# EAGLE library part IC_UC_PIC24FJ256GB110 (library dp_devices)
16-bit Flash Microcontroller with USB OTG
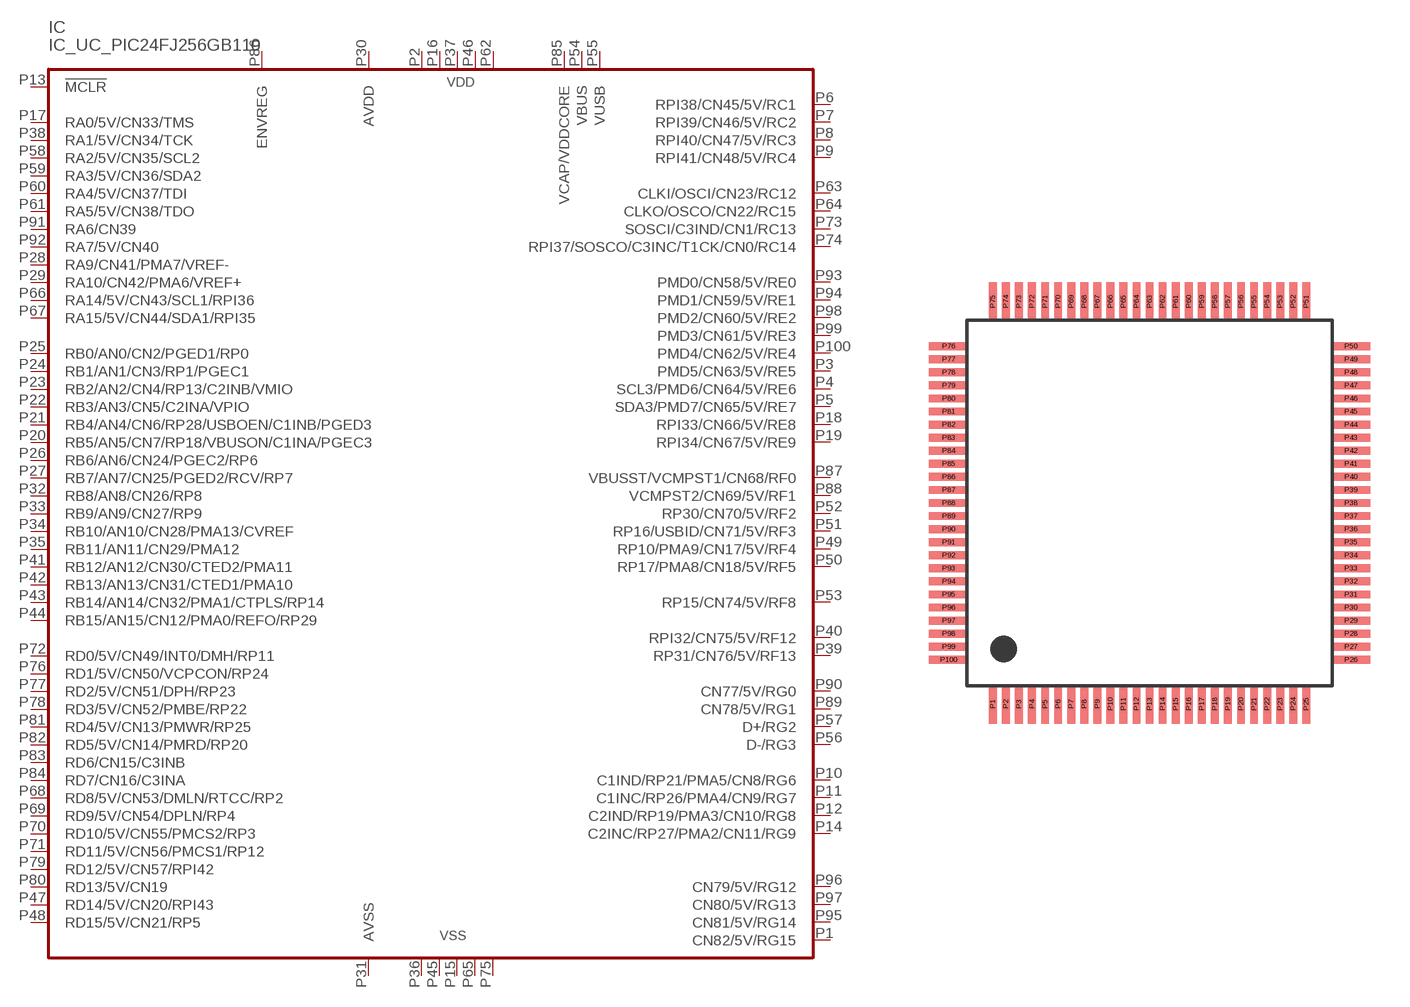
[diagram p76: symbol with the pads of TQFP-100; footprint TQFP-100]

Designator prefix IC

## IC_UC_PIC24FJ256GB110-TQFP100  [TQFP-100]
P1  CN82/5V/RG15
P2  VDD  pwr
P3  PMD5/CN63/5V/RE5
P4  SCL3/PMD6/CN64/5V/RE6
P5  SDA3/PMD7/CN65/5V/RE7
P6  RPI38/CN45/5V/RC1
P7  RPI39/CN46/5V/RC2
P8  RPI40/CN47/5V/RC3
P9  RPI41/CN48/5V/RC4
P10  C1IND/RP21/PMA5/CN8/RG6
P11  C1INC/RP26/PMA4/CN9/RG7
P12  C2IND/RP19/PMA3/CN10/RG8
P13  !MCLR  in
P14  C2INC/RP27/PMA2/CN11/RG9
P15  VSS  pwr
P16  VDD  pwr
P17  RA0/5V/CN33/TMS
P18  RPI33/CN66/5V/RE8
P19  RPI34/CN67/5V/RE9
P20  RB5/AN5/CN7/RP18/VBUSON/C1INA/PGEC3
P21  RB4/AN4/CN6/RP28/USBOEN/C1INB/PGED3
P22  RB3/AN3/CN5/C2INA/VPIO
P23  RB2/AN2/CN4/RP13/C2INB/VMIO
P24  RB1/AN1/CN3/RP1/PGEC1
P25  RB0/AN0/CN2/PGED1/RP0
P26  RB6/AN6/CN24/PGEC2/RP6
P27  RB7/AN7/CN25/PGED2/RCV/RP7
P28  RA9/CN41/PMA7/VREF-
P29  RA10/CN42/PMA6/VREF+
P30  AVDD  pwr
P31  AVSS  pwr
P32  RB8/AN8/CN26/RP8
P33  RB9/AN9/CN27/RP9
P34  RB10/AN10/CN28/PMA13/CVREF
P35  RB11/AN11/CN29/PMA12
P36  VSS  pwr
P37  VDD  pwr
P38  RA1/5V/CN34/TCK
P39  RP31/CN76/5V/RF13
P40  RPI32/CN75/5V/RF12
P41  RB12/AN12/CN30/CTED2/PMA11
P42  RB13/AN13/CN31/CTED1/PMA10
P43  RB14/AN14/CN32/PMA1/CTPLS/RP14
P44  RB15/AN15/CN12/PMA0/REFO/RP29
P45  VSS  pwr
P46  VDD  pwr
P47  RD14/5V/CN20/RPI43
P48  RD15/5V/CN21/RP5
P49  RP10/PMA9/CN17/5V/RF4
P50  RP17/PMA8/CN18/5V/RF5
P51  RP16/USBID/CN71/5V/RF3
P52  RP30/CN70/5V/RF2
P53  RP15/CN74/5V/RF8
P54  VBUS  pwr
P55  VUSB  pwr
P56  D-/RG3
P57  D+/RG2
P58  RA2/5V/CN35/SCL2
P59  RA3/5V/CN36/SDA2
P60  RA4/5V/CN37/TDI
P61  RA5/5V/CN38/TDO
P62  VDD  pwr
P63  CLKI/OSCI/CN23/RC12
P64  CLKO/OSCO/CN22/RC15
P65  VSS  pwr
P66  RA14/5V/CN43/SCL1/RPI36
P67  RA15/5V/CN44/SDA1/RPI35
P68  RD8/5V/CN53/DMLN/RTCC/RP2
P69  RD9/5V/CN54/DPLN/RP4
P70  RD10/5V/CN55/PMCS2/RP3
P71  RD11/5V/CN56/PMCS1/RP12
P72  RD0/5V/CN49/INT0/DMH/RP11
P73  SOSCI/C3IND/CN1/RC13
P74  RPI37/SOSCO/C3INC/T1CK/CN0/RC14
P75  VSS  pwr
P76  RD1/5V/CN50/VCPCON/RP24
P77  RD2/5V/CN51/DPH/RP23
P78  RD3/5V/CN52/PMBE/RP22
P79  RD12/5V/CN57/RPI42
P80  RD13/5V/CN19
P81  RD4/5V/CN13/PMWR/RP25
P82  RD5/5V/CN14/PMRD/RP20
P83  RD6/CN15/C3INB
P84  RD7/CN16/C3INA
P85  VCAP/VDDCORE  pwr
P86  ENVREG  in
P87  VBUSST/VCMPST1/CN68/RF0
P88  VCMPST2/CN69/5V/RF1
P89  CN78/5V/RG1
P90  CN77/5V/RG0
P91  RA6/CN39
P92  RA7/5V/CN40
P93  PMD0/CN58/5V/RE0
P94  PMD1/CN59/5V/RE1
P95  CN81/5V/RG14
P96  CN79/5V/RG12
P97  CN80/5V/RG13
P98  PMD2/CN60/5V/RE2
P99  PMD3/CN61/5V/RE3
P100  PMD4/CN62/5V/RE4

## Footprint TQFP-100 (pad centres in mm)
100-Lead Plastic Thin Quad Flatpack
smd 0.3 x 1.5: P1 -6,-7.7; P2 -5.5,-7.7; P3 -5,-7.7; P4 -4.5,-7.7; P5 -4,-7.7; P6 -3.5,-7.7; P7 -3,-7.7; P8 -2.5,-7.7; P9 -2,-7.7; P10 -1.5,-7.7; P11 -1,-7.7; P12 -0.5,-7.7; P13 0,-7.7; P14 0.5,-7.7; P15 1,-7.7; P16 1.5,-7.7; P17 2,-7.7; P18 2.5,-7.7; P19 3,-7.7; P20 3.5,-7.7; P21 4,-7.7; P22 4.5,-7.7; P23 5,-7.7; P24 5.5,-7.7; P25 6,-7.7; P51 6,7.7; P52 5.5,7.7; P53 5,7.7; P54 4.5,7.7; P55 4,7.7; P56 3.5,7.7; P57 3,7.7; P58 2.5,7.7; P59 2,7.7; P60 1.5,7.7; P61 1,7.7; P62 0.5,7.7; P63 0,7.7; P64 -0.5,7.7; P65 -1,7.7; P66 -1.5,7.7; P67 -2,7.7; P68 -2.5,7.7; P69 -3,7.7; P70 -3.5,7.7; P71 -4,7.7; P72 -4.5,7.7; P73 -5,7.7; P74 -5.5,7.7; P75 -6,7.7
smd 1.5 x 0.3: P26 7.7,-6; P27 7.7,-5.5; P28 7.7,-5; P29 7.7,-4.5; P30 7.7,-4; P31 7.7,-3.5; P32 7.7,-3; P33 7.7,-2.5; P34 7.7,-2; P35 7.7,-1.5; P36 7.7,-1; P37 7.7,-0.5; P38 7.7,0; P39 7.7,0.5; P40 7.7,1; P41 7.7,1.5; P42 7.7,2; P43 7.7,2.5; P44 7.7,3; P45 7.7,3.5; P46 7.7,4; P47 7.7,4.5; P48 7.7,5; P49 7.7,5.5; P50 7.7,6; P76 -7.7,6; P77 -7.7,5.5; P78 -7.7,5; P79 -7.7,4.5; P80 -7.7,4; P81 -7.7,3.5; P82 -7.7,3; P83 -7.7,2.5; P84 -7.7,2; P85 -7.7,1.5; P86 -7.7,1; P87 -7.7,0.5; P88 -7.7,0; P89 -7.7,-0.5; P90 -7.7,-1; P91 -7.7,-1.5; P92 -7.7,-2; P93 -7.7,-2.5; P94 -7.7,-3; P95 -7.7,-3.5; P96 -7.7,-4; P97 -7.7,-4.5; P98 -7.7,-5; P99 -7.7,-5.5; P100 -7.7,-6